# Altium integrated library Micron Memory RLDRAM Memory.IntLib: 73 symbols (part 19 of 39)
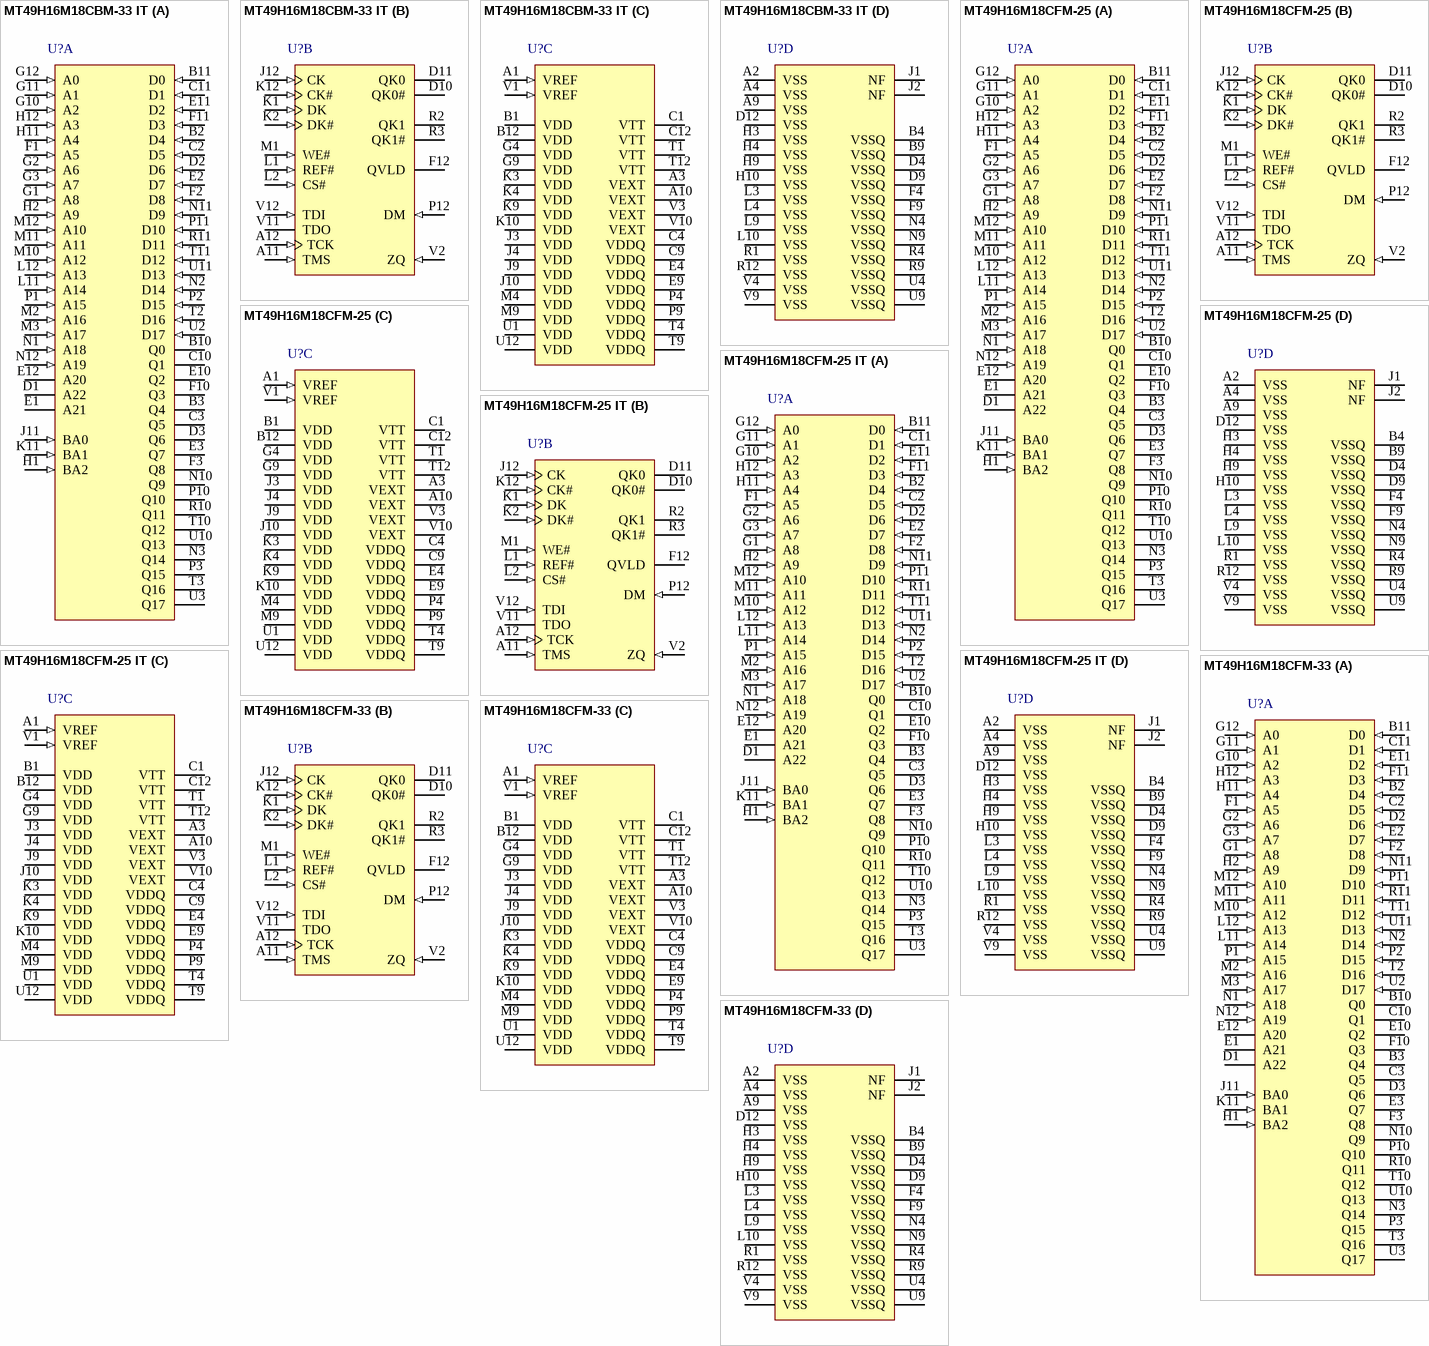
[diagram p34: symbols MT49H16M18CBM-33 IT to MT49H16M18CFM-33]

## MT49H16M18CFM-25 IT
designator U?
288Mb RLDRAM 2, 16Mb x 18, 2.5ns, 1.8V, -40 to 95 degC, 144-Ball uBGA; Manufacturer: Micron; PartNumber: MT49H16M18CFM-25 IT; Clock Rate: 400 MHz; I/O: Separate; Op. Temp.: -40C to +95C; DatasheetVersion: Rev.O; PackageVersion: Rev.O; PackageReference: MICT-FM-144; PackageDescription: 144-Ball uBGA, 18.5 x 11 mm, Pitch 1 mm; Cycle Time: 2.5ns; Density: 288Mb; Depth: 16Mb; Package: uBGA; Pin Count: 144-ball; RoHS: 5/6; Technology: RLDRAM 2; Voltage: 1.8V; Width: x18; Mounting Technology: Surface Mount; ComponentLink1Description: Manufacturer URL; ComponentLink1URL: http://www.micron.com/; ComponentLink2Description: Datasheet; ComponentLink2URL: http://www.micron.com/~/media/Documents/Products/Data%20Sheet/DRAM/288Mb_RLDRAM_2_SIO.pdf; ComponentLink3Description: Package Specification; ComponentLink3URL: http://www.micron.com/~/media/Documents/Products/Data%20Sheet/DRAM/288Mb_RLDRAM_2_CIO.pdf
footprint MICT-FM-144 (BGA, 144-Balls, Body 18.5x11mm, Pitch(D) 1mm, Pitch(E) 0.8mm)
part A pins: B2 D4 (in) "Data input: The D signals form the 18-bit input data bus. During WRITE commands, the data is sampled at both edges of DK", B3 Q4 (hiz) "Data output: The Q signals form the 18-bit output data bus. During READ commands, the data is referenced to both edges of QK.", B10 Q0 (hiz) "Data output: The Q signals form the 18-bit output data bus. During READ commands, the data is referenced to both edges of QK.", B11 D0 (in) "Data input: The D signals form the 18-bit input data bus. During WRITE commands, the data is sampled at both edges of DK", C2 D5 (in) "Data input: The D signals form the 18-bit input data bus. During WRITE commands, the data is sampled at both edges of DK", C3 Q5 (hiz) "Data output: The Q signals form the 18-bit output data bus. During READ commands, the data is referenced to both edges of QK.", C10 Q1 (hiz) "Data output: The Q signals form the 18-bit output data bus. During READ commands, the data is referenced to both edges of QK.", C11 D1 (in) "Data input: The D signals form the 18-bit input data bus. During WRITE commands, the data is sampled at both edges of DK", D1 A22 "Reserved for future use: This signal is not connected and can be connected to ground.", D2 D6 (in) "Data input: The D signals form the 18-bit input data bus. During WRITE commands, the data is sampled at both edges of DK", D3 Q6 (hiz) "Data output: The Q signals form the 18-bit output data bus. During READ commands, the data is referenced to both edges of QK.", E1 A21 "Reserved for future use: These signals are internally connected and can be treated as address inputs.", E2 D7 (in) "Data input: The D signals form the 18-bit input data bus. During WRITE commands, the data is sampled at both edges of DK", E3 Q7 (hiz) "Data output: The Q signals form the 18-bit output data bus. During READ commands, the data is referenced to both edges of QK.", E10 Q2 (hiz) "Data output: The Q signals form the 18-bit output data bus. During READ commands, the data is referenced to both edges of QK.", E11 D2 (in) "Data input: The D signals form the 18-bit input data bus. During WRITE commands, the data is sampled at both edges of DK", E12 A20 "Reserved for future use: These signals are internally connected and can be treated as address inputs.", F1 A5 (in) "Address inputs: A0-A19 define the row and column addresses for READ and WRITE operations.During a MODE REGISTER SET, the address inputs define the register settings. They are sampled at the rising edge of CK.", F2 D8 (in) "Data input: The D signals form the 18-bit input data bus. During WRITE commands, the data is sampled at both edges of DK", F3 Q8 (hiz) "Data output: The Q signals form the 18-bit output data bus. During READ commands, the data is referenced to both edges of QK.", F10 Q3 (hiz) "Data output: The Q signals form the 18-bit output data bus. During READ commands, the data is referenced to both edges of QK.", F11 D3 (in) "Data input: The D signals form the 18-bit input data bus. During WRITE commands, the data is sampled at both edges of DK", G1 A8 (in) "Address inputs: A0-A19 define the row and column addresses for READ and WRITE operations.During a MODE REGISTER SET, the address inputs define the register settings. They are sampled at the rising edge of CK.", G2 A6 (in) "Address inputs: A0-A19 define the row and column addresses for READ and WRITE operations.During a MODE REGISTER SET, the address inputs define the register settings. They are sampled at the rising edge of CK.", G3 A7 (in) "Address inputs: A0-A19 define the row and column addresses for READ and WRITE operations.During a MODE REGISTER SET, the address inputs define the register settings. They are sampled at the rising edge of CK.", G10 A2 (in) "Address inputs: A0-A19 define the row and column addresses for READ and WRITE operations.During a MODE REGISTER SET, the address inputs define the register settings. They are sampled at the rising edge of CK.", G11 A1 (in) "Address inputs: A0-A19 define the row and column addresses for READ and WRITE operations.During a MODE REGISTER SET, the address inputs define the register settings. They are sampled at the rising edge of CK.", G12 A0 (in) "Address inputs: A0-A19 define the row and column addresses for READ and WRITE operations.During a MODE REGISTER SET, the address inputs define the register settings. They are sampled at the rising edge of CK.", H1 BA2 (in) "Bank address inputs: Select to which internal bank a command is being applied.", H2 A9 (in) "Address inputs: A0-A19 define the row and column addresses for READ and WRITE operations.During a MODE REGISTER SET, the address inputs define the register settings. They are sampled at the rising edge of CK.", H11 A4 (in) "Address inputs: A0-A19 define the row and column addresses for READ and WRITE operations.During a MODE REGISTER SET, the address inputs define the register settings. They are sampled at the rising edge of CK.", H12 A3 (in) "Address inputs: A0-A19 define the row and column addresses for READ and WRITE operations.During a MODE REGISTER SET, the address inputs define the register settings. They are sampled at the rising edge of CK.", J11 BA0 (in) "Bank address inputs: Select to which internal bank a command is being applied.", K11 BA1 (in) "Bank address inputs: Select to which internal bank a command is being applied.", L11 A14 (in) "Address inputs: A0-A19 define the row and column addresses for READ and WRITE operations.During a MODE REGISTER SET, the address inputs define the register settings. They are sampled at the rising edge of CK.", L12 A13 (in) "Address inputs: A0-A19 define the row and column addresses for READ and WRITE operations.During a MODE REGISTER SET, the address inputs define the register settings. They are sampled at the rising edge of CK.", M2 A16 (in) "Address inputs: A0-A19 define the row and column addresses for READ and WRITE operations.During a MODE REGISTER SET, the address inputs define the register settings. They are sampled at the rising edge of CK.", M3 A17 (in) "Address inputs: A0-A19 define the row and column addresses for READ and WRITE operations.During a MODE REGISTER SET, the address inputs define the register settings. They are sampled at the rising edge of CK.", M10 A12 (in) "Address inputs: A0-A19 define the row and column addresses for READ and WRITE operations.During a MODE REGISTER SET, the address inputs define the register settings. They are sampled at the rising edge of CK.", M11 A11 (in) "Address inputs: A0-A19 define the row and column addresses for READ and WRITE operations.During a MODE REGISTER SET, the address inputs define the register settings. They are sampled at the rising edge of CK.", M12 A10 (in) "Address inputs: A0-A19 define the row and column addresses for READ and WRITE operations.During a MODE REGISTER SET, the address inputs define the register settings. They are sampled at the rising edge of CK.", N1 A18 (in) "Address inputs: A0-A19 define the row and column addresses for READ and WRITE operations.During a MODE REGISTER SET, the address inputs define the register settings. They are sampled at the rising edge of CK.", N2 D14 (in) "Data input: The D signals form the 18-bit input data bus. During WRITE commands, the data is sampled at both edges of DK", N3 Q14 (hiz) "Data output: The Q signals form the 18-bit output data bus. During READ commands, the data is referenced to both edges of QK.", N10 Q9 (hiz) "Data output: The Q signals form the 18-bit output data bus. During READ commands, the data is referenced to both edges of QK.", N11 D9 (in) "Data input: The D signals form the 18-bit input data bus. During WRITE commands, the data is sampled at both edges of DK", N12 A19 (in) "Address inputs: A0-A19 define the row and column addresses for READ and WRITE operations.During a MODE REGISTER SET, the address inputs define the register settings. They are sampled at the rising edge of CK.", P1 A15 (in) "Address inputs: A0-A19 define the row and column addresses for READ and WRITE operations.During a MODE REGISTER SET, the address inputs define the register settings. They are sampled at the rising edge of CK.", P2 D15 (in) "Data input: The D signals form the 18-bit input data bus. During WRITE commands, the data is sampled at both edges of DK", P3 Q15 (hiz) "Data output: The Q signals form the 18-bit output data bus. During READ commands, the data is referenced to both edges of QK.", P10 Q10 (hiz) "Data output: The Q signals form the 18-bit output data bus. During READ commands, the data is referenced to both edges of QK.", P11 D10 (in) "Data input: The D signals form the 18-bit input data bus. During WRITE commands, the data is sampled at both edges of DK", R10 Q11 (hiz) "Data output: The Q signals form the 18-bit output data bus. During READ commands, the data is referenced to both edges of QK.", R11 D11 (in) "Data input: The D signals form the 18-bit input data bus. During WRITE commands, the data is sampled at both edges of DK", T2 D16 (in) "Data input: The D signals form the 18-bit input data bus. During WRITE commands, the data is sampled at both edges of DK", T3 Q16 (hiz) "Data output: The Q signals form the 18-bit output data bus. During READ commands, the data is referenced to both edges of QK.", T10 Q12 (hiz) "Data output: The Q signals form the 18-bit output data bus. During READ commands, the data is referenced to both edges of QK.", T11 D12 (in) "Data input: The D signals form the 18-bit input data bus. During WRITE commands, the data is sampled at both edges of DK", U2 D17 (in) "Data input: The D signals form the 18-bit input data bus. During WRITE commands, the data is sampled at both edges of DK", U3 Q17 (hiz) "Data output: The Q signals form the 18-bit output data bus. During READ commands, the data is referenced to both edges of QK.", U10 Q13 (hiz) "Data output: The Q signals form the 18-bit output data bus. During READ commands, the data is referenced to both edges of QK.", U11 D13 (in) "Data input: The D signals form the 18-bit input data bus. During WRITE commands, the data is sampled at both edges of DK"
part B pins: A11 TMS (in) "IEEE 1149.1 test inputs: These balls may be left as no connects if the JTAG function is not used.", A12 TCK (in) "IEEE 1149.1 clock input: This ball must be tied to VSS if the JTAG function is not used", D10 QK0# (hiz) "Output data clocks: QKx and QKx# are opposite polarity, output data clocks. They are freerunning, and during READs are edge-aligned with data output from the RLDRAM. QKx# is ideally180 degrees out of phase with QKx. QK0 and (See Datasheet)", D11 QK0 (hiz) "Output data clocks: QKx and QKx# are opposite polarity, output data clocks. They are freerunning, and during READs are edge-aligned with data output from the RLDRAM. QKx# is ideally180 degrees out of phase with QKx. QK0 and (See Datasheet)", F12 QVLD (hiz) "Data valid: The QVLD pin indicates valid output data. QVLD is edge-aligned with QKx and QKx#.", J12 CK (in) "Input clock: CK and CK# are differential input clocks. Addresses and commands are latched on the rising edge of CK. CK# is ideally 180 degrees out of phase with CK.", K1 DK (in) "Input data clock: DK and DK# are the differential input data clocks. All input data is referenced to both edges of DK. DK# is ideally 180 degrees out of phase with DK. D0-D17 are referenced to DK and DK#.", K2 DK# (in) "Input data clock: DK and DK# are the differential input data clocks. All input data is referenced to both edges of DK. DK# is ideally 180 degrees out of phase with DK. D0-D17 are referenced to DK and DK#.", K12 CK# (in) "Input clock: CK and CK# are differential input clocks. Addresses and commands are latched on the rising edge of CK. CK# is ideally 180 degrees out of phase with CK.", L1 REF# (in) "Command inputs: Sampled at the positive edge of CK, WE# and REF# define (together with CS#) the command to be executed.", L2 CS# (in) "Chip select: CS# enables the command decoder when LOW and disables it when HIGH. When the command decoder is disabled, new commands are ignored, but internal operations continue.", M1 WE# (in) "Command inputs: Sampled at the positive edge of CK, WE# and REF# define (together with CS#) the command to be executed.", P12 DM (in) "Input data mask: The DM signal is the input mask signal for WRITE data. Input data is masked when DM is sampled HIGH. DM is sampled on both edges of DK. Tie signal to ground if not used.", R2 QK1 (hiz) "Output data clocks: QKx and QKx# are opposite polarity, output data clocks. They are freerunning, and during READs are edge-aligned with data output from the RLDRAM. QKx# is ideally 180 degrees out of phase with QKx. QK0 and (See Datasheet)", R3 QK1# (hiz) "Output data clocks: QKx and QKx# are opposite polarity, output data clocks. They are freerunning, and during READs are edge-aligned with data output from the RLDRAM. QKx# is ideally 180 degrees out of phase with QKx. QK0 and (See Datasheet)", V2 ZQ (in) "External impedance (25-60 ohm): This signal is used to tune the device outputs to the system databus impedance. Q output impedance is set to 0.2 x RQ, where RQ is a resistor from this signal to ground. Connecting ZQ to GND (See Datasheet)", V11 TDO (hiz) "IEEE 1149.1 test output: JTAG output. This ball may be left as no connect if the JTAG function is not used", V12 TDI (in) "IEEE 1149.1 test inputs: These balls may be left as no connects if the JTAG function is not used."
part C pins: A1 VREF (in) "Input reference voltage: Nominally VDDQ/2. Provides a reference voltage for the input buffers.", A3 VEXT (power) "Power supply: Nominally, 2.5V. See Table 6 on page 15 for range", A10 VEXT (power) "Power supply: Nominally, 2.5V. See Table 6 on page 15 for range", B1 VDD (power) "Power supply: Nominally 1.8V. See Table 6 on page 15 for range", B12 VDD (power) "Power supply: Nominally 1.8V. See Table 6 on page 15 for range", C1 VTT (power) "Power supply: Isolated termination supply. Nominally, VDDQ/2. See Table 6 on page 15 for range.", C4 VDDQ (power) "DQ power supply: Nominally, 1.5V or 1.8V. Isolated on the device for improved noise immunity. See Table 6 on page 15 for range", C9 VDDQ (power) "DQ power supply: Nominally, 1.5V or 1.8V. Isolated on the device for improved noise immunity. See Table 6 on page 15 for range", C12 VTT (power) "Power supply: Isolated termination supply. Nominally, VDDQ/2. See Table 6 on page 15 for range.", E4 VDDQ (power) "DQ power supply: Nominally, 1.5V or 1.8V. Isolated on the device for improved noise immunity. See Table 6 on page 15 for range", E9 VDDQ (power) "DQ power supply: Nominally, 1.5V or 1.8V. Isolated on the device for improved noise immunity. See Table 6 on page 15 for range", G4 VDD (power) "Power supply: Nominally 1.8V. See Table 6 on page 15 for range", G9 VDD (power) "Power supply: Nominally 1.8V. See Table 6 on page 15 for range", J3 VDD (power) "Power supply: Nominally 1.8V. See Table 6 on page 15 for range", J4 VDD (power) "Power supply: Nominally 1.8V. See Table 6 on page 15 for range", J9 VDD (power) "Power supply: Nominally 1.8V. See Table 6 on page 15 for range", J10 VDD (power) "Power supply: Nominally 1.8V. See Table 6 on page 15 for range", K3 VDD (power) "Power supply: Nominally 1.8V. See Table 6 on page 15 for range", K4 VDD (power) "Power supply: Nominally 1.8V. See Table 6 on page 15 for range", K9 VDD (power) "Power supply: Nominally 1.8V. See Table 6 on page 15 for range", K10 VDD (power) "Power supply: Nominally 1.8V. See Table 6 on page 15 for range", M4 VDD (power) "Power supply: Nominally 1.8V. See Table 6 on page 15 for range", M9 VDD (power) "Power supply: Nominally 1.8V. See Table 6 on page 15 for range", P4 VDDQ (power) "DQ power supply: Nominally, 1.5V or 1.8V. Isolated on the device for improved noise immunity. See Table 6 on page 15 for range", P9 VDDQ (power) "DQ power supply: Nominally, 1.5V or 1.8V. Isolated on the device for improved noise immunity. See Table 6 on page 15 for range", T1 VTT (power) "Power supply: Isolated termination supply. Nominally, VDDQ/2. See Table 6 on page 15 for range.", T4 VDDQ (power) "DQ power supply: Nominally, 1.5V or 1.8V. Isolated on the device for improved noise immunity. See Table 6 on page 15 for range", T9 VDDQ (power) "DQ power supply: Nominally, 1.5V or 1.8V. Isolated on the device for improved noise immunity. See Table 6 on page 15 for range", T12 VTT (power) "Power supply: Isolated termination supply. Nominally, VDDQ/2. See Table 6 on page 15 for range.", U1 VDD (power) "Power supply: Nominally 1.8V. See Table 6 on page 15 for range", U12 VDD (power) "Power supply: Nominally 1.8V. See Table 6 on page 15 for range", V1 VREF (in) "Input reference voltage: Nominally VDDQ/2. Provides a reference voltage for the input buffers.", V3 VEXT (power) "Power supply: Nominally, 2.5V. See Table 6 on page 15 for range", V10 VEXT (power) "Power supply: Nominally, 2.5V. See Table 6 on page 15 for range"
part D pins: A2 VSS (power) "Ground", A4 VSS (power) "Ground", A9 VSS (power) "Ground", B4 VSSQ (power) "DQ ground: Isolated on the device for improved noise immunity.", B9 VSSQ (power) "DQ ground: Isolated on the device for improved noise immunity.", D4 VSSQ (power) "DQ ground: Isolated on the device for improved noise immunity.", D9 VSSQ (power) "DQ ground: Isolated on the device for improved noise immunity.", D12 VSS (power) "Ground.", F4 VSSQ (power) "DQ ground: Isolated on the device for improved noise immunity.", F9 VSSQ (power) "DQ ground: Isolated on the device for improved noise immunity.", H3 VSS (power) "Ground", H4 VSS (power) "Ground", H9 VSS (power) "Ground", H10 VSS (power) "Ground", J1 NF "No function: These balls can be connected to ground.", J2 NF "No function: These balls can be connected to ground.", L3 VSS (power) "Ground", L4 VSS (power) "Ground", L9 VSS (power) "Ground", L10 VSS (power) "Ground", N4 VSSQ (power) "DQ ground: Isolated on the device for improved noise immunity.", N9 VSSQ (power) "DQ ground: Isolated on the device for improved noise immunity.", R1 VSS (power) "Ground", R4 VSSQ (power) "DQ ground: Isolated on the device for improved noise immunity.", R9 VSSQ (power) "DQ ground: Isolated on the device for improved noise immunity.", R12 VSS (power) "Ground.", U4 VSSQ (power) "DQ ground: Isolated on the device for improved noise immunity.", U9 VSSQ (power) "DQ ground: Isolated on the device for improved noise immunity.", V4 VSS (power) "Ground", V9 VSS (power) "Ground"

## MT49H16M18CFM-33
designator U?
288Mb RLDRAM 2, 16Mb x 18, 3.3ns, 1.8V, 0 to 95 degC, 144-Ball uBGA; Manufacturer: Micron; PartNumber: MT49H16M18CFM-33; Clock Rate: 300 MHz; I/O: Separate; Op. Temp.: 0C to +95C; DatasheetVersion: Rev.O; PackageVersion: Rev.O; PackageReference: MICT-FM-144; PackageDescription: 144-Ball uBGA, 18.5 x 11 mm, Pitch 1 mm; Cycle Time: 3.3ns; Density: 288Mb; Depth: 16Mb; Package: uBGA; Pin Count: 144-ball; RoHS: 5/6; Technology: RLDRAM 2; Voltage: 1.8V; Width: x18; Mounting Technology: Surface Mount; ComponentLink1Description: Manufacturer URL; ComponentLink1URL: http://www.micron.com/; ComponentLink2Description: Datasheet; ComponentLink2URL: http://www.micron.com/~/media/Documents/Products/Data%20Sheet/DRAM/288Mb_RLDRAM_2_SIO.pdf; ComponentLink3Description: Package Specification; ComponentLink3URL: http://www.micron.com/~/media/Documents/Products/Data%20Sheet/DRAM/288Mb_RLDRAM_2_CIO.pdf
footprint MICT-FM-144 (BGA, 144-Balls, Body 18.5x11mm, Pitch(D) 1mm, Pitch(E) 0.8mm)
part A pins: B2 D4 (in) "Data input: The D signals form the 18-bit input data bus. During WRITE commands, the data is sampled at both edges of DK", B3 Q4 (hiz) "Data output: The Q signals form the 18-bit output data bus. During READ commands, the data is referenced to both edges of QK.", B10 Q0 (hiz) "Data output: The Q signals form the 18-bit output data bus. During READ commands, the data is referenced to both edges of QK.", B11 D0 (in) "Data input: The D signals form the 18-bit input data bus. During WRITE commands, the data is sampled at both edges of DK", C2 D5 (in) "Data input: The D signals form the 18-bit input data bus. During WRITE commands, the data is sampled at both edges of DK", C3 Q5 (hiz) "Data output: The Q signals form the 18-bit output data bus. During READ commands, the data is referenced to both edges of QK.", C10 Q1 (hiz) "Data output: The Q signals form the 18-bit output data bus. During READ commands, the data is referenced to both edges of QK.", C11 D1 (in) "Data input: The D signals form the 18-bit input data bus. During WRITE commands, the data is sampled at both edges of DK", D1 A22 "Reserved for future use: This signal is not connected and can be connected to ground.", D2 D6 (in) "Data input: The D signals form the 18-bit input data bus. During WRITE commands, the data is sampled at both edges of DK", D3 Q6 (hiz) "Data output: The Q signals form the 18-bit output data bus. During READ commands, the data is referenced to both edges of QK.", E1 A21 "Reserved for future use: These signals are internally connected and can be treated as address inputs.", E2 D7 (in) "Data input: The D signals form the 18-bit input data bus. During WRITE commands, the data is sampled at both edges of DK", E3 Q7 (hiz) "Data output: The Q signals form the 18-bit output data bus. During READ commands, the data is referenced to both edges of QK.", E10 Q2 (hiz) "Data output: The Q signals form the 18-bit output data bus. During READ commands, the data is referenced to both edges of QK.", E11 D2 (in) "Data input: The D signals form the 18-bit input data bus. During WRITE commands, the data is sampled at both edges of DK", E12 A20 "Reserved for future use: These signals are internally connected and can be treated as address inputs.", F1 A5 (in) "Address inputs: A0-A19 define the row and column addresses for READ and WRITE operations.During a MODE REGISTER SET, the address inputs define the register settings. They are sampled at the rising edge of CK.", F2 D8 (in) "Data input: The D signals form the 18-bit input data bus. During WRITE commands, the data is sampled at both edges of DK", F3 Q8 (hiz) "Data output: The Q signals form the 18-bit output data bus. During READ commands, the data is referenced to both edges of QK.", F10 Q3 (hiz) "Data output: The Q signals form the 18-bit output data bus. During READ commands, the data is referenced to both edges of QK.", F11 D3 (in) "Data input: The D signals form the 18-bit input data bus. During WRITE commands, the data is sampled at both edges of DK", G1 A8 (in) "Address inputs: A0-A19 define the row and column addresses for READ and WRITE operations.During a MODE REGISTER SET, the address inputs define the register settings. They are sampled at the rising edge of CK.", G2 A6 (in) "Address inputs: A0-A19 define the row and column addresses for READ and WRITE operations.During a MODE REGISTER SET, the address inputs define the register settings. They are sampled at the rising edge of CK.", G3 A7 (in) "Address inputs: A0-A19 define the row and column addresses for READ and WRITE operations.During a MODE REGISTER SET, the address inputs define the register settings. They are sampled at the rising edge of CK.", G10 A2 (in) "Address inputs: A0-A19 define the row and column addresses for READ and WRITE operations.During a MODE REGISTER SET, the address inputs define the register settings. They are sampled at the rising edge of CK.", G11 A1 (in) "Address inputs: A0-A19 define the row and column addresses for READ and WRITE operations.During a MODE REGISTER SET, the address inputs define the register settings. They are sampled at the rising edge of CK.", G12 A0 (in) "Address inputs: A0-A19 define the row and column addresses for READ and WRITE operations.During a MODE REGISTER SET, the address inputs define the register settings. They are sampled at the rising edge of CK.", H1 BA2 (in) "Bank address inputs: Select to which internal bank a command is being applied.", H2 A9 (in) "Address inputs: A0-A19 define the row and column addresses for READ and WRITE operations.During a MODE REGISTER SET, the address inputs define the register settings. They are sampled at the rising edge of CK.", H11 A4 (in) "Address inputs: A0-A19 define the row and column addresses for READ and WRITE operations.During a MODE REGISTER SET, the address inputs define the register settings. They are sampled at the rising edge of CK.", H12 A3 (in) "Address inputs: A0-A19 define the row and column addresses for READ and WRITE operations.During a MODE REGISTER SET, the address inputs define the register settings. They are sampled at the rising edge of CK.", J11 BA0 (in) "Bank address inputs: Select to which internal bank a command is being applied.", K11 BA1 (in) "Bank address inputs: Select to which internal bank a command is being applied.", L11 A14 (in) "Address inputs: A0-A19 define the row and column addresses for READ and WRITE operations.During a MODE REGISTER SET, the address inputs define the register settings. They are sampled at the rising edge of CK.", L12 A13 (in) "Address inputs: A0-A19 define the row and column addresses for READ and WRITE operations.During a MODE REGISTER SET, the address inputs define the register settings. They are sampled at the rising edge of CK.", M2 A16 (in) "Address inputs: A0-A19 define the row and column addresses for READ and WRITE operations.During a MODE REGISTER SET, the address inputs define the register settings. They are sampled at the rising edge of CK.", M3 A17 (in) "Address inputs: A0-A19 define the row and column addresses for READ and WRITE operations.During a MODE REGISTER SET, the address inputs define the register settings. They are sampled at the rising edge of CK.", M10 A12 (in) "Address inputs: A0-A19 define the row and column addresses for READ and WRITE operations.During a MODE REGISTER SET, the address inputs define the register settings. They are sampled at the rising edge of CK.", M11 A11 (in) "Address inputs: A0-A19 define the row and column addresses for READ and WRITE operations.During a MODE REGISTER SET, the address inputs define the register settings. They are sampled at the rising edge of CK.", M12 A10 (in) "Address inputs: A0-A19 define the row and column addresses for READ and WRITE operations.During a MODE REGISTER SET, the address inputs define the register settings. They are sampled at the rising edge of CK.", N1 A18 (in) "Address inputs: A0-A19 define the row and column addresses for READ and WRITE operations.During a MODE REGISTER SET, the address inputs define the register settings. They are sampled at the rising edge of CK.", N2 D14 (in) "Data input: The D signals form the 18-bit input data bus. During WRITE commands, the data is sampled at both edges of DK", N3 Q14 (hiz) "Data output: The Q signals form the 18-bit output data bus. During READ commands, the data is referenced to both edges of QK.", N10 Q9 (hiz) "Data output: The Q signals form the 18-bit output data bus. During READ commands, the data is referenced to both edges of QK.", N11 D9 (in) "Data input: The D signals form the 18-bit input data bus. During WRITE commands, the data is sampled at both edges of DK", N12 A19 (in) "Address inputs: A0-A19 define the row and column addresses for READ and WRITE operations.During a MODE REGISTER SET, the address inputs define the register settings. They are sampled at the rising edge of CK.", P1 A15 (in) "Address inputs: A0-A19 define the row and column addresses for READ and WRITE operations.During a MODE REGISTER SET, the address inputs define the register settings. They are sampled at the rising edge of CK.", P2 D15 (in) "Data input: The D signals form the 18-bit input data bus. During WRITE commands, the data is sampled at both edges of DK", P3 Q15 (hiz) "Data output: The Q signals form the 18-bit output data bus. During READ commands, the data is referenced to both edges of QK.", P10 Q10 (hiz) "Data output: The Q signals form the 18-bit output data bus. During READ commands, the data is referenced to both edges of QK.", P11 D10 (in) "Data input: The D signals form the 18-bit input data bus. During WRITE commands, the data is sampled at both edges of DK", R10 Q11 (hiz) "Data output: The Q signals form the 18-bit output data bus. During READ commands, the data is referenced to both edges of QK.", R11 D11 (in) "Data input: The D signals form the 18-bit input data bus. During WRITE commands, the data is sampled at both edges of DK", T2 D16 (in) "Data input: The D signals form the 18-bit input data bus. During WRITE commands, the data is sampled at both edges of DK", T3 Q16 (hiz) "Data output: The Q signals form the 18-bit output data bus. During READ commands, the data is referenced to both edges of QK.", T10 Q12 (hiz) "Data output: The Q signals form the 18-bit output data bus. During READ commands, the data is referenced to both edges of QK.", T11 D12 (in) "Data input: The D signals form the 18-bit input data bus. During WRITE commands, the data is sampled at both edges of DK", U2 D17 (in) "Data input: The D signals form the 18-bit input data bus. During WRITE commands, the data is sampled at both edges of DK", U3 Q17 (hiz) "Data output: The Q signals form the 18-bit output data bus. During READ commands, the data is referenced to both edges of QK.", U10 Q13 (hiz) "Data output: The Q signals form the 18-bit output data bus. During READ commands, the data is referenced to both edges of QK.", U11 D13 (in) "Data input: The D signals form the 18-bit input data bus. During WRITE commands, the data is sampled at both edges of DK"
part B pins: A11 TMS (in) "IEEE 1149.1 test inputs: These balls may be left as no connects if the JTAG function is not used.", A12 TCK (in) "IEEE 1149.1 clock input: This ball must be tied to VSS if the JTAG function is not used", D10 QK0# (hiz) "Output data clocks: QKx and QKx# are opposite polarity, output data clocks. They are freerunning, and during READs are edge-aligned with data output from the RLDRAM. QKx# is ideally180 degrees out of phase with QKx. QK0 and (See Datasheet)", D11 QK0 (hiz) "Output data clocks: QKx and QKx# are opposite polarity, output data clocks. They are freerunning, and during READs are edge-aligned with data output from the RLDRAM. QKx# is ideally180 degrees out of phase with QKx. QK0 and (See Datasheet)", F12 QVLD (hiz) "Data valid: The QVLD pin indicates valid output data. QVLD is edge-aligned with QKx and QKx#.", J12 CK (in) "Input clock: CK and CK# are differential input clocks. Addresses and commands are latched on the rising edge of CK. CK# is ideally 180 degrees out of phase with CK.", K1 DK (in) "Input data clock: DK and DK# are the differential input data clocks. All input data is referenced to both edges of DK. DK# is ideally 180 degrees out of phase with DK. D0-D17 are referenced to DK and DK#.", K2 DK# (in) "Input data clock: DK and DK# are the differential input data clocks. All input data is referenced to both edges of DK. DK# is ideally 180 degrees out of phase with DK. D0-D17 are referenced to DK and DK#.", K12 CK# (in) "Input clock: CK and CK# are differential input clocks. Addresses and commands are latched on the rising edge of CK. CK# is ideally 180 degrees out of phase with CK.", L1 REF# (in) "Command inputs: Sampled at the positive edge of CK, WE# and REF# define (together with CS#) the command to be executed.", L2 CS# (in) "Chip select: CS# enables the command decoder when LOW and disables it when HIGH. When the command decoder is disabled, new commands are ignored, but internal operations continue.", M1 WE# (in) "Command inputs: Sampled at the positive edge of CK, WE# and REF# define (together with CS#) the command to be executed.", P12 DM (in) "Input data mask: The DM signal is the input mask signal for WRITE data. Input data is masked when DM is sampled HIGH. DM is sampled on both edges of DK. Tie signal to ground if not used.", R2 QK1 (hiz) "Output data clocks: QKx and QKx# are opposite polarity, output data clocks. They are freerunning, and during READs are edge-aligned with data output from the RLDRAM. QKx# is ideally 180 degrees out of phase with QKx. QK0 and (See Datasheet)", R3 QK1# (hiz) "Output data clocks: QKx and QKx# are opposite polarity, output data clocks. They are freerunning, and during READs are edge-aligned with data output from the RLDRAM. QKx# is ideally 180 degrees out of phase with QKx. QK0 and (See Datasheet)", V2 ZQ (in) "External impedance (25-60 ohm): This signal is used to tune the device outputs to the system databus impedance. Q output impedance is set to 0.2 x RQ, where RQ is a resistor from this signal to ground. Connecting ZQ to GND (See Datasheet)", V11 TDO (hiz) "IEEE 1149.1 test output: JTAG output. This ball may be left as no connect if the JTAG function is not used", V12 TDI (in) "IEEE 1149.1 test inputs: These balls may be left as no connects if the JTAG function is not used."
part C pins: A1 VREF (in) "Input reference voltage: Nominally VDDQ/2. Provides a reference voltage for the input buffers.", A3 VEXT (power) "Power supply: Nominally, 2.5V. See Table 6 on page 15 for range", A10 VEXT (power) "Power supply: Nominally, 2.5V. See Table 6 on page 15 for range", B1 VDD (power) "Power supply: Nominally 1.8V. See Table 6 on page 15 for range", B12 VDD (power) "Power supply: Nominally 1.8V. See Table 6 on page 15 for range", C1 VTT (power) "Power supply: Isolated termination supply. Nominally, VDDQ/2. See Table 6 on page 15 for range.", C4 VDDQ (power) "DQ power supply: Nominally, 1.5V or 1.8V. Isolated on the device for improved noise immunity. See Table 6 on page 15 for range", C9 VDDQ (power) "DQ power supply: Nominally, 1.5V or 1.8V. Isolated on the device for improved noise immunity. See Table 6 on page 15 for range", C12 VTT (power) "Power supply: Isolated termination supply. Nominally, VDDQ/2. See Table 6 on page 15 for range.", E4 VDDQ (power) "DQ power supply: Nominally, 1.5V or 1.8V. Isolated on the device for improved noise immunity. See Table 6 on page 15 for range", E9 VDDQ (power) "DQ power supply: Nominally, 1.5V or 1.8V. Isolated on the device for improved noise immunity. See Table 6 on page 15 for range", G4 VDD (power) "Power supply: Nominally 1.8V. See Table 6 on page 15 for range", G9 VDD (power) "Power supply: Nominally 1.8V. See Table 6 on page 15 for range", J3 VDD (power) "Power supply: Nominally 1.8V. See Table 6 on page 15 for range", J4 VDD (power) "Power supply: Nominally 1.8V. See Table 6 on page 15 for range", J9 VDD (power) "Power supply: Nominally 1.8V. See Table 6 on page 15 for range", J10 VDD (power) "Power supply: Nominally 1.8V. See Table 6 on page 15 for range", K3 VDD (power) "Power supply: Nominally 1.8V. See Table 6 on page 15 for range", K4 VDD (power) "Power supply: Nominally 1.8V. See Table 6 on page 15 for range", K9 VDD (power) "Power supply: Nominally 1.8V. See Table 6 on page 15 for range", K10 VDD (power) "Power supply: Nominally 1.8V. See Table 6 on page 15 for range", M4 VDD (power) "Power supply: Nominally 1.8V. See Table 6 on page 15 for range", M9 VDD (power) "Power supply: Nominally 1.8V. See Table 6 on page 15 for range", P4 VDDQ (power) "DQ power supply: Nominally, 1.5V or 1.8V. Isolated on the device for improved noise immunity. See Table 6 on page 15 for range", P9 VDDQ (power) "DQ power supply: Nominally, 1.5V or 1.8V. Isolated on the device for improved noise immunity. See Table 6 on page 15 for range", T1 VTT (power) "Power supply: Isolated termination supply. Nominally, VDDQ/2. See Table 6 on page 15 for range.", T4 VDDQ (power) "DQ power supply: Nominally, 1.5V or 1.8V. Isolated on the device for improved noise immunity. See Table 6 on page 15 for range", T9 VDDQ (power) "DQ power supply: Nominally, 1.5V or 1.8V. Isolated on the device for improved noise immunity. See Table 6 on page 15 for range", T12 VTT (power) "Power supply: Isolated termination supply. Nominally, VDDQ/2. See Table 6 on page 15 for range.", U1 VDD (power) "Power supply: Nominally 1.8V. See Table 6 on page 15 for range", U12 VDD (power) "Power supply: Nominally 1.8V. See Table 6 on page 15 for range", V1 VREF (in) "Input reference voltage: Nominally VDDQ/2. Provides a reference voltage for the input buffers.", V3 VEXT (power) "Power supply: Nominally, 2.5V. See Table 6 on page 15 for range", V10 VEXT (power) "Power supply: Nominally, 2.5V. See Table 6 on page 15 for range"
part D pins: A2 VSS (power) "Ground", A4 VSS (power) "Ground", A9 VSS (power) "Ground", B4 VSSQ (power) "DQ ground: Isolated on the device for improved noise immunity.", B9 VSSQ (power) "DQ ground: Isolated on the device for improved noise immunity.", D4 VSSQ (power) "DQ ground: Isolated on the device for improved noise immunity.", D9 VSSQ (power) "DQ ground: Isolated on the device for improved noise immunity.", D12 VSS (power) "Ground.", F4 VSSQ (power) "DQ ground: Isolated on the device for improved noise immunity.", F9 VSSQ (power) "DQ ground: Isolated on the device for improved noise immunity.", H3 VSS (power) "Ground", H4 VSS (power) "Ground", H9 VSS (power) "Ground", H10 VSS (power) "Ground", J1 NF "No function: These balls can be connected to ground.", J2 NF "No function: These balls can be connected to ground.", L3 VSS (power) "Ground", L4 VSS (power) "Ground", L9 VSS (power) "Ground", L10 VSS (power) "Ground", N4 VSSQ (power) "DQ ground: Isolated on the device for improved noise immunity.", N9 VSSQ (power) "DQ ground: Isolated on the device for improved noise immunity.", R1 VSS (power) "Ground", R4 VSSQ (power) "DQ ground: Isolated on the device for improved noise immunity.", R9 VSSQ (power) "DQ ground: Isolated on the device for improved noise immunity.", R12 VSS (power) "Ground.", U4 VSSQ (power) "DQ ground: Isolated on the device for improved noise immunity.", U9 VSSQ (power) "DQ ground: Isolated on the device for improved noise immunity.", V4 VSS (power) "Ground", V9 VSS (power) "Ground"

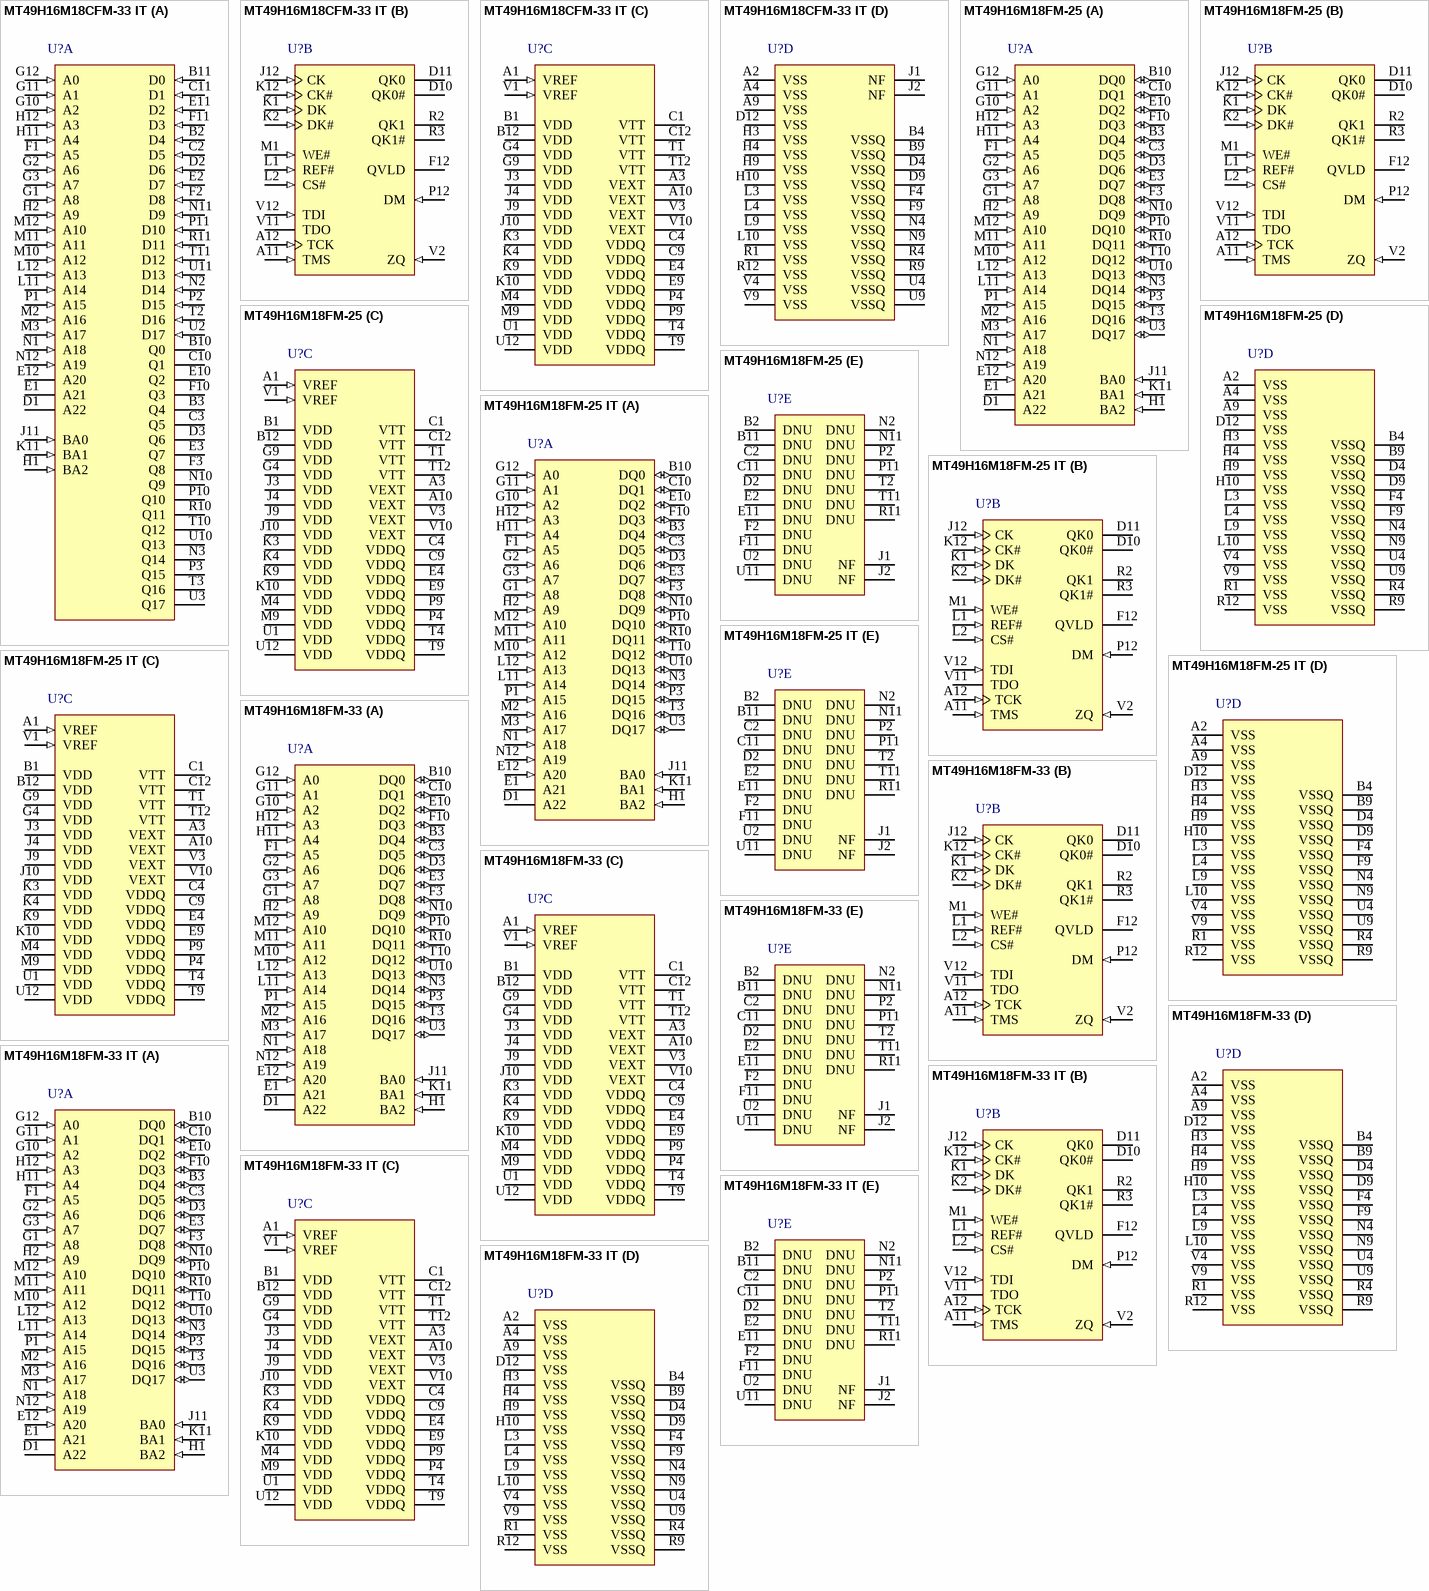
[diagram p8: symbols MT49H16M18CFM-33 IT to MT49H16M18FM-33 IT]